# Altium schematic symbol library QUTMS_Transistors.SchLib: 5 symbols
Pins are listed as number, name and electrical type; pins without a type are passive.

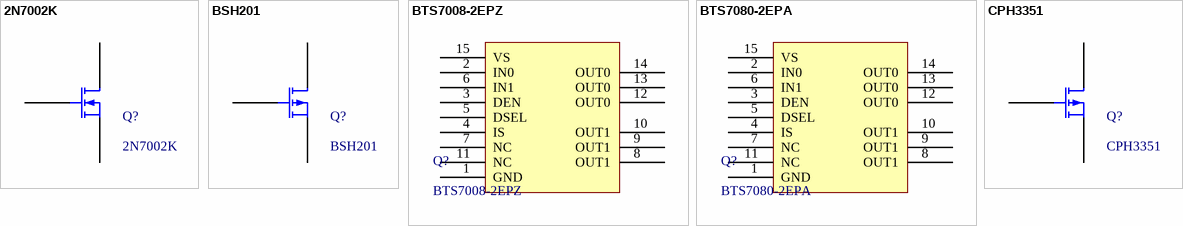
[diagram p0: symbols 2N7002K to CPH3351]

## 2N7002K
designator Q?
N-Channel 60V 300mA (Ta) 350mW (Ta) Surface Mount SOT-23 (TO-236AB)
footprint SOT-23-3
pins: D, G, S

## BSH201
designator Q?
P-Channel 60V 300mA (Ta) 417mW (Ta) Surface Mount TO-236AB; ComponentLink1Description: Datasheet; ComponentLink1URL: https://assets.nexperia.com/documents/data-sheet/BSH201.pdf
footprint 2N7002K (SOT23, 3-Leads, Body 2.90x2.30mm, Pitch 0.95mm, IPC Medium Density)
pins: D, G, S

## BTS7008-2EPZ
designator Q?
ComponentLink1Description: Infineon; ComponentLink1URL: https://www.infineon.com/cms/en/product/power/smart-low-side-high-side-switches/high-side-switches/profet-plus-2-12v-automotive-smart-high-side-switch/bts7008-2epz/; ComponentLink2Description: Datasheet; ComponentLink2URL: https://www.infineon.com/dgdl/Infineon-BTS7008-2EPZ-DataSheet-v01_00-EN.pdf?fileId=5546d4626e651a41016e7e74b26b1098
footprint BTS7008-2EPZ
pins: 1 GND, 2 IN0, 3 DEN, 4 IS, 5 DSEL, 6 IN1, 7 NC, 8 OUT1, 9 OUT1, 10 OUT1, 11 NC, 12 OUT0, 13 OUT0, 14 OUT0, 15 VS

## BTS7080-2EPA
designator Q?
ComponentLink1Description: Infineon; ComponentLink1URL: https://www.infineon.com/cms/en/product/power/smart-low-side-high-side-switches/high-side-switches/profet-plus-2-12v-automotive-smart-high-side-switch/bts7080-2epa/; ComponentLink2Description: Datasheet; ComponentLink2URL: https://www.infineon.com/dgdl/Infineon-BTS7080-2EPA-DataSheet-v01_06-EN.pdf?fileId=5546d4625e763904015e941bf21e2dbe
footprint BTS7008-2EPZ
pins: 1 GND, 2 IN0, 3 DEN, 4 IS, 5 DSEL, 6 IN1, 7 NC, 8 OUT1, 9 OUT1, 10 OUT1, 11 NC, 12 OUT0, 13 OUT0, 14 OUT0, 15 VS

## CPH3351
designator Q?
P-Channel 60V 1.8A (Ta) 1W (Ta) Surface Mount 3-CPH; ComponentLink1Description: Datasheet; ComponentLink1URL: https://www.onsemi.com/pub/Collateral/CPH3351-D.PDF; ComponentLink2Description: Digikey; ComponentLink2URL: https://www.digikey.com/products/en/discrete-semiconductor-products/transistors-fets-mosfets-single/278?k=&pkeyword=&sv=0&pv7=2&sf=0&FV=-1%7C488%2C-8%7C278&mpart=CPH3351-TL-W&quantity=&ColumnSort=0&page=1&stock=1&nstock=1&datasheet=1&photo=1&pageSize=25
footprint SOT-23-3
pins: D, G, S